# Altium integrated library JST SRLibPkg.IntLib: 2 symbols
Pins are listed as number, name and electrical type; pins without a type are passive.

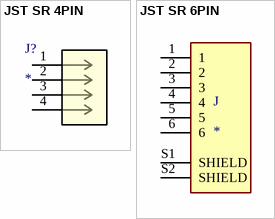
[diagram p0: symbols JST SR 4PIN to JST SR 6PIN]

## JST SR 4PIN
designator J?
SM04B-SRSS-TB; Mfr_Name: JST; RefDes: RefDes; Type: Type
footprint JST SR 4PIN (CONN_SM04B-SRSS-TB_JST)
pins: 1, 2, 3, 4

## JST SR 6PIN
designator J
Connector Header Surface Mount, Right Angle 6 position 0.039 _1.00mm_SM06B-SRSS-TB(LF)(SN); MP: SM06B-SRSS-TB_LF__SN_; MF: JST Sales; Package: None; Value: *; SnapEDA_Link: https://www.snapeda.com/parts/SM06B-SRSS-TB%28LF%29%28SN%29/JST%20Sales%20America%20Inc./view-part/554386/?ref=snap; Digi-Key_Purchase_URL: https://www.digikey.com/product-detail/en/jst-sales-america-inc/SM06B-SRSS-TB_LF__SN_/455-1806-1-ND/926877?utm_source=snapeda&utm_medium=aggregator&utm_campaign=symbol; Digi-Key_Part_Number: 455-1806-1-ND
footprint JST SR 6PIN
pins: 1, 2, 3, 4, 5, 6, S1 SHIELD, S2 SHIELD